# Altium footprint library MCP73833  4.PcbLib: 2 footprints
Each footprint in its own frame and in the unit in brackets; x right, y up, seen from the top. Pads: shape width x height; smd on the part's side, far side on the other; paste and mask are expansions set on the pad; w line width, h text height; cw(c..) or ccw(c..) is an arc to the next point about the centre after c.
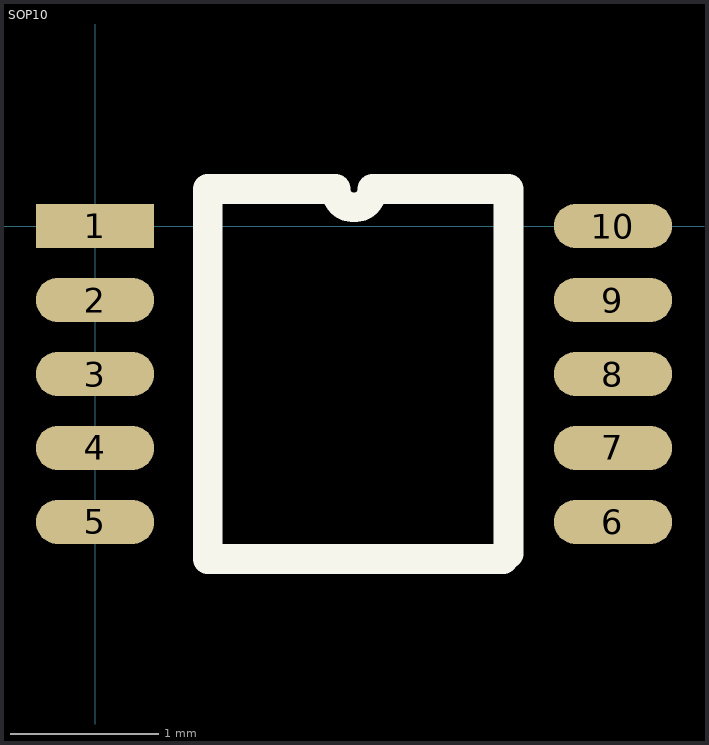
[diagram p0: the footprints below, top view; thin cyan lines are the x and y axes]

## PCBComponent_1 [mm]

## SOP10 [mm]
pads (10):
  rect 0.8x0.3 smd: 1(0,0)
  oval 0.8x0.3 smd: 2(0,-0.5) 3(0,-1) 4(0,-1.5) 5(0,-2) 6(3.5,-2) 7(3.5,-1.5) 8(3.5,-1) 9(3.5,-0.5) 10(3.5,0)
Top Overlay:
  lines w0.2: 0.762,-2.25 0.762,-1.625 0.762,-0.375 0.762,0.25 1.625,0.25 ccw(c1.75,0.25) 1.875,0.25 2.794,0.25 2.794,-2.214 2.758,-2.25 0.762,-2.25